# Altium schematic symbol library Term,Header,5x2 Pin,2.54mm,Thru.SchLib: 1 symbol
Pins are listed as number, name and electrical type; pins without a type are passive.

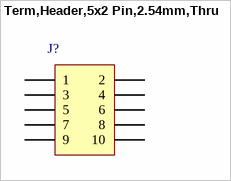
[diagram p0: symbol Term,Header,5x2 Pin,2.54mm,Thru]

## Term,Header,5x2 Pin,2.54mm,Thru
designator J?
pins: 1, 2, 3, 4, 5, 6, 7, 8, 9, 10